# EAGLE library part LM393 (library op-amp)
COMPARATOR
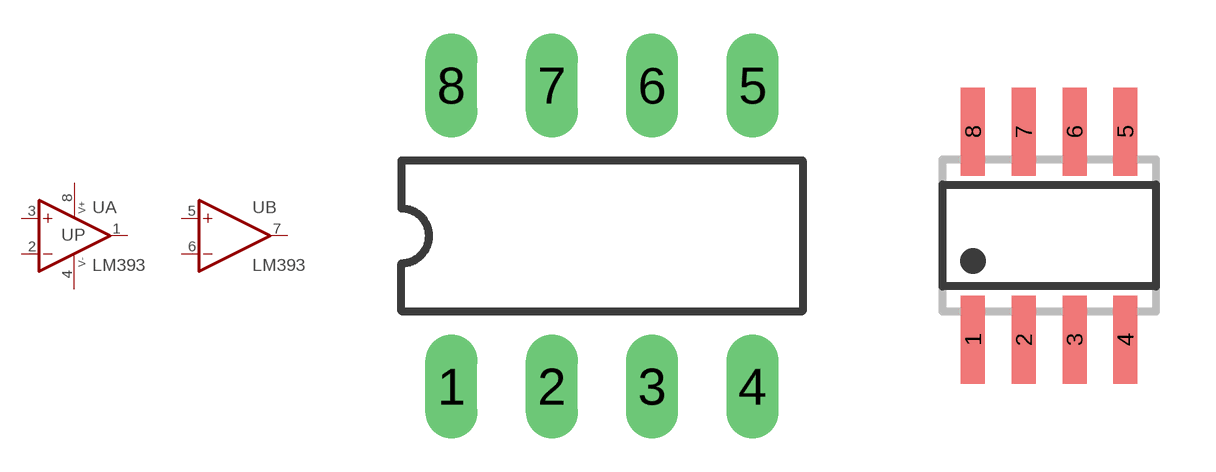
[diagram p43: symbol with the pads of DIL08; footprints DIL08, SO08]

Designator prefix U; gates P=PWR+- A=COMPARATOR-OC B=COMPARATOR-OC

## LM393N  [DIL08]
1  A:OUT  oc
2  A:-IN  in
3  A:+IN  in
4  P:V-  pwr
5  B:+IN  in
6  B:-IN  in
7  B:OUT  oc
8  P:V+  pwr

## LM393D  [SO08]
Pads as for DIL08

## LM393DGK  [VSSOP8]
Pads as for DIL08

## LM393PW  [TSSOP8]
Pads as for DIL08

## Footprint DIL08 (pad centres in mm)
Dual In Line Package
drill 0.813 long: 1 -3.81,-3.81; 2 -1.27,-3.81; 3 1.27,-3.81; 4 3.81,-3.81; 5 3.81,3.81; 6 1.27,3.81; 7 -1.27,3.81; 8 -3.81,3.81

## Footprint SO08 (pad centres in mm)
SMALL OUTLINE INTEGRATED CIRCUIT body 3.9 mm/JEDEC MS-012AA
smd 0.6 x 2.2: 1 -1.905,-2.6; 2 -0.635,-2.6; 3 0.635,-2.6; 4 1.905,-2.6; 5 1.905,2.6; 6 0.635,2.6; 7 -0.635,2.6; 8 -1.905,2.6

## Footprint VSSOP8 (pad centres in mm)
VSSOP 8 - DGK (S-PDSO-G8) body 3.1 mm
smd 0.35 x 1.2: 1 -0.975,-2.325; 2 -0.325,-2.325; 3 0.325,-2.325; 4 0.975,-2.325; 5 0.975,2.325; 6 0.325,2.325; 7 -0.325,2.325; 8 -0.975,2.325

## Footprint TSSOP8 (pad centres in mm)
Thin Shrink Small Outline Plastic 8
smd 0.45 x 1.5: 1 -0.975,-2.9; 2 -0.325,-2.9; 3 0.325,-2.9; 4 0.975,-2.9; 5 0.975,2.9; 6 0.325,2.9; 7 -0.325,2.9; 8 -0.975,2.9